# Altium integrated library 2821.IntLib: 1 symbol
Pins are listed as number, name and electrical type; pins without a type are passive.

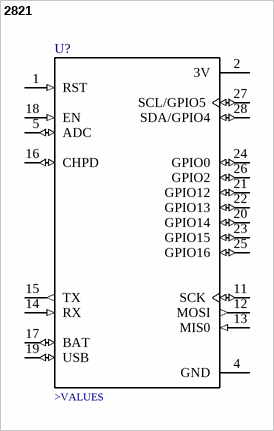
[diagram p0: symbol 2821]

## 2821
designator U?  (value not drawn)
Adafruit Feather HUZZAH with ESP8266 WiFi; MF: Adafruit Industries; MP: 2821; Price: None; Package: None; Availability: Unavailable; SnapEDA_Link: https://www.snapeda.com/parts/2821/Adafruit%20Industries%20LLC/view-part/?ref=snap; Value: *
footprint *XCVR_2821
pins: 1 RST (in), 2 3V (power), 4 GND (power), 5 ADC (io), 11 SCK (io), 12 MOSI (out), 13 MIS0 (in), 14 RX (in), 15 TX (out), 16 CHPD (io), 17 BAT (io), 18 EN (in), 19 USB (io), 20 GPIO14 (io), 21 GPIO12 (io), 22 GPIO13 (io), 23 GPIO15 (io), 24 GPIO0 (io), 25 GPIO16 (io), 26 GPIO2 (io), 27 SCL/GPIO5 (io), 28 SDA/GPIO4 (io)
text: >VALUES